# Altium footprint library PcbLib1.PcbLib: 3 footprints
Each footprint in its own frame and in the unit in brackets; x right, y up, seen from the top. Pads: shape width x height; smd on the part's side, far side on the other; paste and mask are expansions set on the pad; w line width, h text height; cw(c..) or ccw(c..) is an arc to the next point about the centre after c.
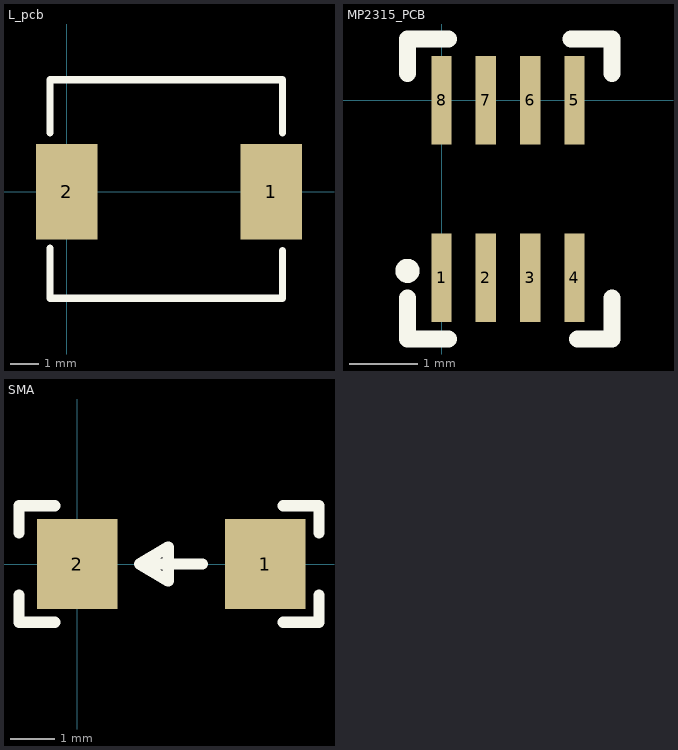
[diagram p0: the footprints below, top view; thin cyan lines are the x and y axes]

## L_pcb [mm]
pads (2):
  rect 2.194x3.42 smd mask+0.102: 1(7.286,0)
  rect 2.194x3.42 smd: 2(0,0)
Top Overlay:
  lines w0.254: -0.6,-2 -0.6,-3.8 7.7,-3.8 7.7,-2.1 ; -0.6,2.1 -0.6,4 7.7,4 7.7,2.1

## MP2315_PCB [mm]
pads (8):
  rect 0.3x1.3 smd mask+0.05: 1(0,-2.6) 2(0.65,-2.6) 3(1.3,-2.6) 4(1.95,-2.6) 5(1.95,0) 6(1.3,0) 7(0.65,0) 8(0,0)
Top Overlay:
  circle w0.254: c-0.5,-2.5 r0.05
  lines w0.254: -0.5,-2.9 -0.5,-3.4 -0.5,-3.5 0.1,-3.5 ; -0.5,0.4 -0.5,0.8 -0.5,0.9 0.1,0.9 ; 1.9,0.9 2.4,0.9 2.5,0.9 2.5,0.4 ; 2,-3.5 2.5,-3.5 2.5,-2.9

## SMA [mm]
pads (2):
  rect 1.8x2 smd: 1(4.2,0) 2(0,0)
Top Overlay:
  lines w0.254: -1.3,-0.7 -1.3,-1.3 -0.5,-1.3 ; -1.3,0.7 -1.3,1.3 -0.5,1.3 ; 2.794,0 1.397,0 ; 4.6,-1.3 5.4,-1.3 5.4,-0.7 ; 4.6,1.3 5.4,1.3 5.4,0.7 ; 1.397,0 2.032,0.381 2.032,-0.381 1.397,0